# Altium schematic symbol library 3.8 - PIC系列单片机.SchLib: 2 symbols
Pins are listed as number, name and electrical type; pins without a type are passive.

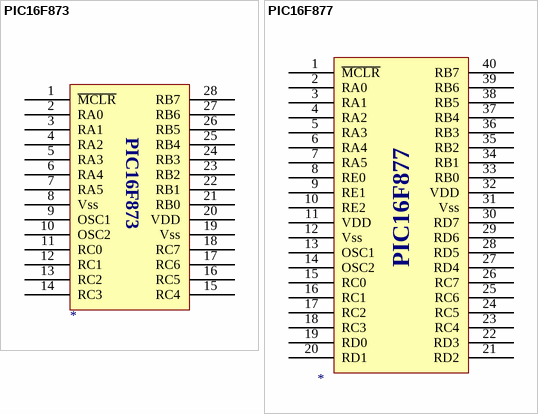
[diagram p0: symbols PIC16F873 to PIC16F877]

## PIC16F873
designator ?
1.库作者: 冰凌猫; 2.库版本: v2.0 (2021.03.30); 3.交流分享: Q群514746572,开源更新,欢迎一起交流学习PCB设计; 4.作者声明: 旨为整合最全库集,欢迎转载,禁止商用！-冰凌猫; 5.备注说明: 该库已二次整合过网上各热销库,基本最全,无需重复搜购安装
pins: 1 ~{MCLR}, 2 RA0, 3 RA1, 4 RA2, 5 RA3, 6 RA4, 7 RA5, 8 Vss, 9 OSC1, 10 OSC2, 11 RC0, 12 RC1, 13 RC2, 14 RC3, 15 RC4, 16 RC5, 17 RC6, 18 RC7, 19 Vss, 20 VDD, 21 RB0, 22 RB1, 23 RB2, 24 RB3, 25 RB4, 26 RB5, 27 RB6, 28 RB7

## PIC16F877
designator ?
1.库作者: 冰凌猫; 2.库版本: v2.0 (2021.03.30); 3.交流分享: Q群514746572,开源更新,欢迎一起交流学习PCB设计; 4.作者声明: 旨为整合最全库集,欢迎转载,禁止商用！-冰凌猫; 5.备注说明: 该库已二次整合过网上各热销库,基本最全,无需重复搜购安装
pins: 1 ~{MCLR}, 2 RA0, 3 RA1, 4 RA2, 5 RA3, 6 RA4, 7 RA5, 8 RE0, 9 RE1, 10 RE2, 11 VDD, 12 Vss, 13 OSC1, 14 OSC2, 15 RC0, 16 RC1, 17 RC2, 18 RC3, 19 RD0, 20 RD1, 21 RD2, 22 RD3, 23 RC4, 24 RC5, 25 RC6, 26 RC7, 27 RD4, 28 RD5, 29 RD6, 30 RD7, 31 Vss, 32 VDD, 33 RB0, 34 RB1, 35 RB2, 36 RB3, 37 RB4, 38 RB5, 39 RB6, 40 RB7